# Altium footprint library PcbLib1.PcbLib: 1 footprints
Each footprint in its own frame and in the unit in brackets; x right, y up, seen from the top. Pads: shape width x height; smd on the part's side, far side on the other; paste and mask are expansions set on the pad; w line width, h text height; cw(c..) or ccw(c..) is an arc to the next point about the centre after c.
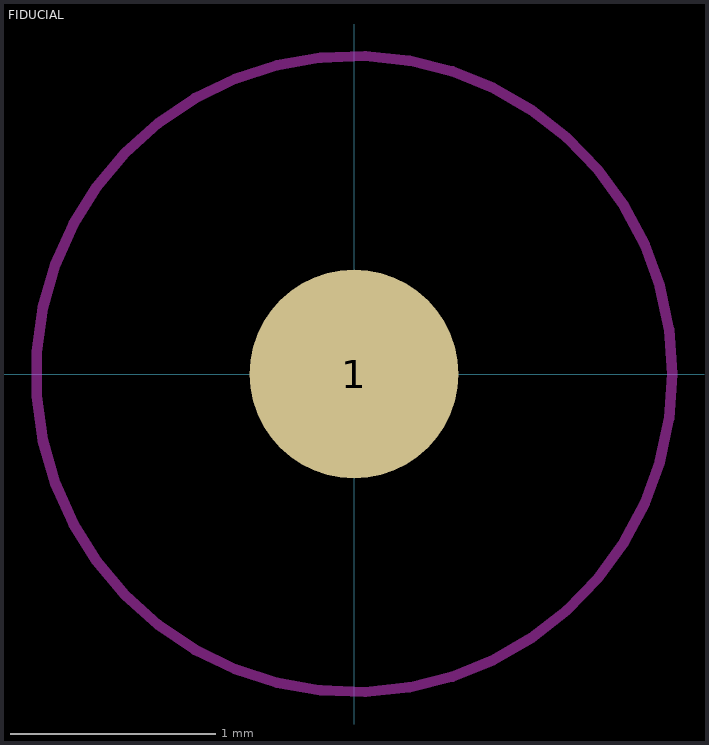
[diagram p0: the footprint, top view; thin cyan lines are the x and y axes]

## FIDUCIAL [mil]
pads (1):
  round 40 smd mask+40: 1(0,0)
Top Layer keep-out:
  circle w2: c0,0 r61
3D body: height 3, standoff 0, extent -20,-20 20,20